# Altium footprint library 称重.PcbLib: 7 footprints
Each footprint in its own frame and in the unit in brackets; x right, y up, seen from the top. Pads: shape width x height; smd on the part's side, far side on the other; paste and mask are expansions set on the pad; w line width, h text height; cw(c..) or ccw(c..) is an arc to the next point about the centre after c.
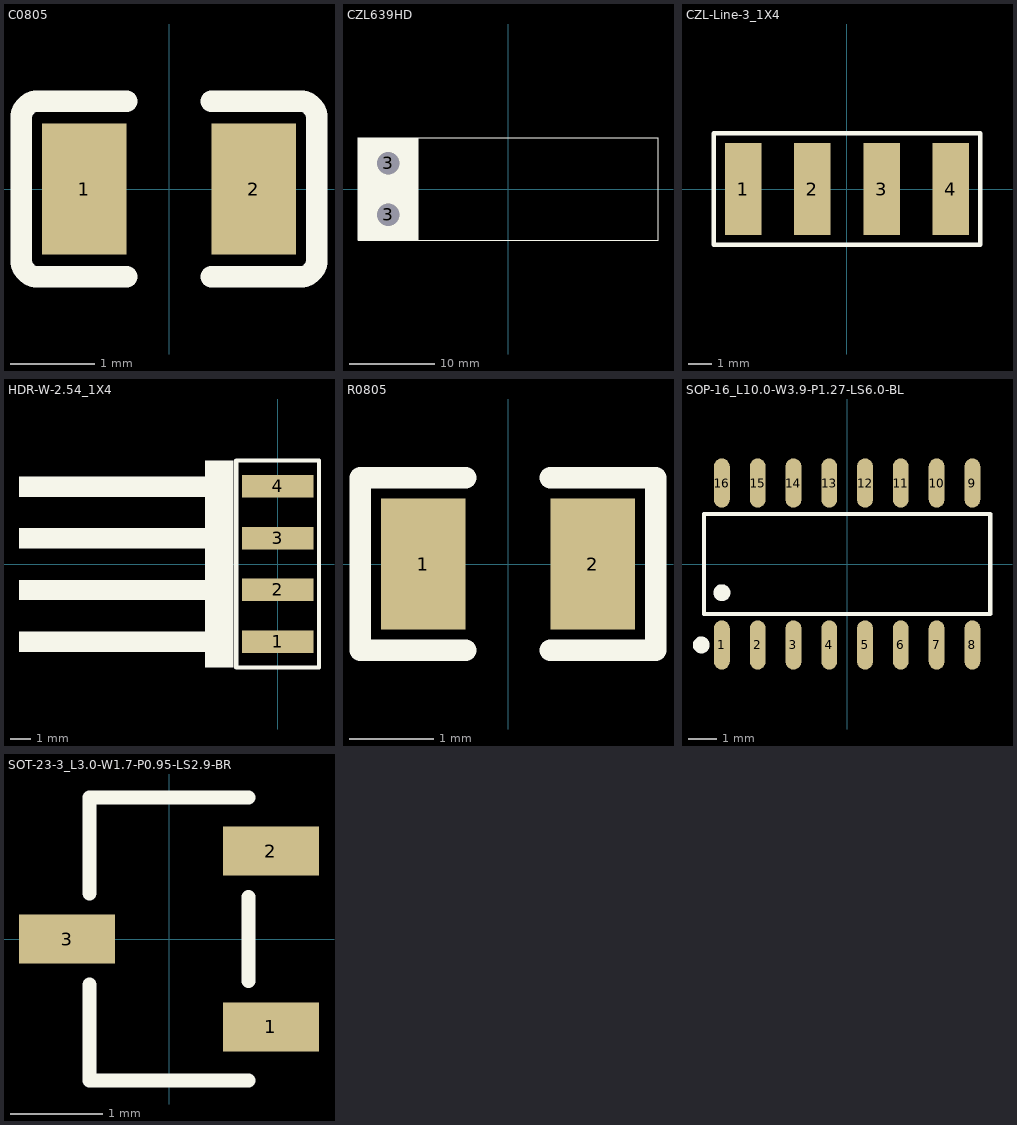
[diagram p0: the footprints below, top view; thin cyan lines are the x and y axes]

## C0805 [mm]
pads (2):
  rect 1x1.55 smd: 1(-1,0) 2(1,0)
Top Overlay:
  lines w0.254: -1.75,0.82 -1.75,0.8 ; -0.5,-1.04 -1.55,-1.04 cw(c-1.55,-0.84) -1.75,-0.84 -1.75,-0.8 -1.75,0.8 ; -0.5,1.04 -1.55,1.04 ccw(c-1.55,0.84) -1.75,0.84 -1.75,0.8 ; 0.5,-1.04 1.55,-1.04 ccw(c1.55,-0.84) 1.75,-0.84 1.75,-0.8 1.75,0.8 1.75,0.84 ccw(c1.55,0.84) 1.55,1.04 0.5,1.04

## CZL639HD [mm]
pads (2):
  round 2.6 hole 2.6: 3(-14,-3) 3(-14,3)
Top Overlay:
  rectangle: -17.526,-5.969 -10.541,5.969
  lines w0.127: -10.5,-6 -10.5,6 ; -17.5,-6 -17.5,6 17.5,6 17.5,-6 -17.5,-6

## CZL-Line-3_1X4 [mm]
pads (4):
  rect 1.575x4 smd: 1(-4.5,0) 2(-1.5,0) 3(1.5,0) 4(4.5,0)
Top Overlay:
  lines w0.203: -5.77,-2.413 -5.77,2.413 5.77,2.413 5.77,-2.413 -5.77,-2.413

## HDR-W-2.54_1X4 [mm]
pads (4):
  rect 3.5x1.1 smd: 1(0,-3.81) 2(0,-1.27) 3(0,1.27) 4(0,3.81)
Top Overlay:
  rectangle: -3.556,-5.08 -2.159,5.08
  rectangle: -12.7,3.302 -3.556,4.302
  rectangle: -12.7,0.762 -3.556,1.762
  rectangle: -12.7,-1.778 -3.556,-0.778
  rectangle: -12.7,-4.318 -3.556,-3.318
  lines w0.203: -2.032,-5.08 2.032,-5.08 2.032,5.08 -2.032,5.08 -2.032,-5.08

## R0805 [mm]
pads (2):
  rect 1x1.55 smd: 1(-1,0) 2(1,0)
Top Overlay:
  lines w0.254: -0.5,-1.02 -1.75,-1.02 -1.75,1.02 -0.5,1.02 ; 0.5,-1.02 1.75,-1.02 1.75,1.02 0.5,1.02

## SOP-16_L10.0-W3.9-P1.27-LS6.0-BL [mm]
pads (16):
  oval 0.56x1.745 smd: 1(-4.445,-2.873) 2(-3.175,-2.873) 3(-1.905,-2.873) 4(-0.635,-2.873) 5(0.635,-2.873) 6(1.905,-2.873) 7(3.175,-2.873) 8(4.445,-2.873) 9(4.445,2.873) 10(3.175,2.873) 11(1.905,2.873) 12(0.635,2.873) 13(-0.635,2.873) 14(-1.905,2.873) 15(-3.175,2.873) 16(-4.445,2.873)
Top Overlay:
  circle w0.3: c-5.177,-2.872 r0.15
  circle w0.3: c-4.445,-1.019 r0.15
  lines w0.152: -5.076,-1.771 5.076,-1.771 5.076,1.771 -5.076,1.771 -5.076,-1.771

## SOT-23-3_L3.0-W1.7-P0.95-LS2.9-BR [mm]
pads (3):
  rect 1.037x0.532 smd: 1(1.101,-0.95) 2(1.101,0.95) 3(-1.101,0)
Top Overlay:
  lines w0.152: -0.859,-0.495 -0.859,-1.526 0.859,-1.526 ; -0.859,0.495 -0.859,1.526 0.859,1.526 ; 0.859,-0.455 0.859,0.455